# EAGLE library part TLC59116F (library FaBo-LED)
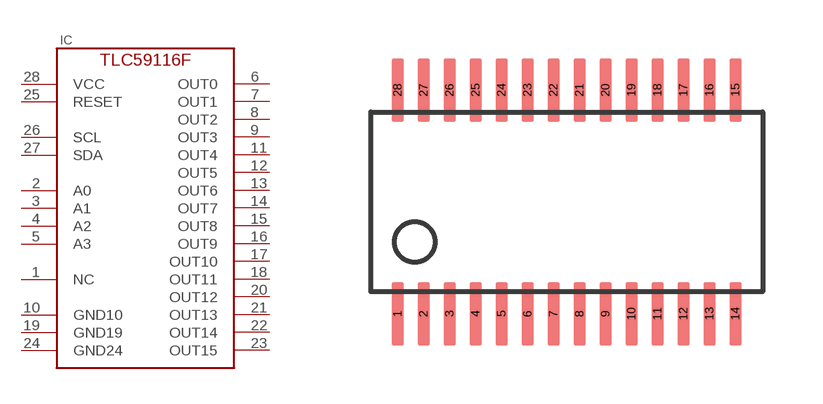
[diagram p8: symbol with the pads of TSSOP28; footprint TSSOP28]

Designator prefix IC

## TLC59116F  [TSSOP28]
1  NC
2  A0
3  A1
4  A2
5  A3
6  OUT0
7  OUT1
8  OUT2
9  OUT3
10  GND10
11  OUT4
12  OUT5
13  OUT6
14  OUT7
15  OUT8
16  OUT9
17  OUT10
18  OUT11
19  GND19
20  OUT12
21  OUT13
22  OUT14
23  OUT15
24  GND24
25  RESET
26  SCL
27  SDA
28  VCC

## Footprint TSSOP28 (pad centres in mm)
smd 0.3 x 1.6: 1 -4.225,-2.8; 2 -3.575,-2.8; 3 -2.925,-2.8; 4 -2.275,-2.8; 5 -1.625,-2.8; 6 -0.975,-2.8; 7 -0.325,-2.8; 8 0.325,-2.8; 9 0.975,-2.8; 10 1.625,-2.8; 11 2.275,-2.8; 12 2.925,-2.8; 13 3.575,-2.8; 14 4.225,-2.8; 15 4.225,2.8; 16 3.575,2.8; 17 2.925,2.8; 18 2.275,2.8; 19 1.625,2.8; 20 0.975,2.8; 21 0.325,2.8; 22 -0.325,2.8; 23 -0.975,2.8; 24 -1.625,2.8; 25 -2.275,2.8; 26 -2.925,2.8; 27 -3.575,2.8; 28 -4.225,2.8